# Altium footprint library pcblib-rev1-env.PcbLib: 24 footprints (part 1 of 2)
Each footprint in its own frame and in the unit in brackets; x right, y up, seen from the top. Pads: shape width x height; smd on the part's side, far side on the other; paste and mask are expansions set on the pad; w line width, h text height; cw(c..) or ccw(c..) is an arc to the next point about the centre after c.
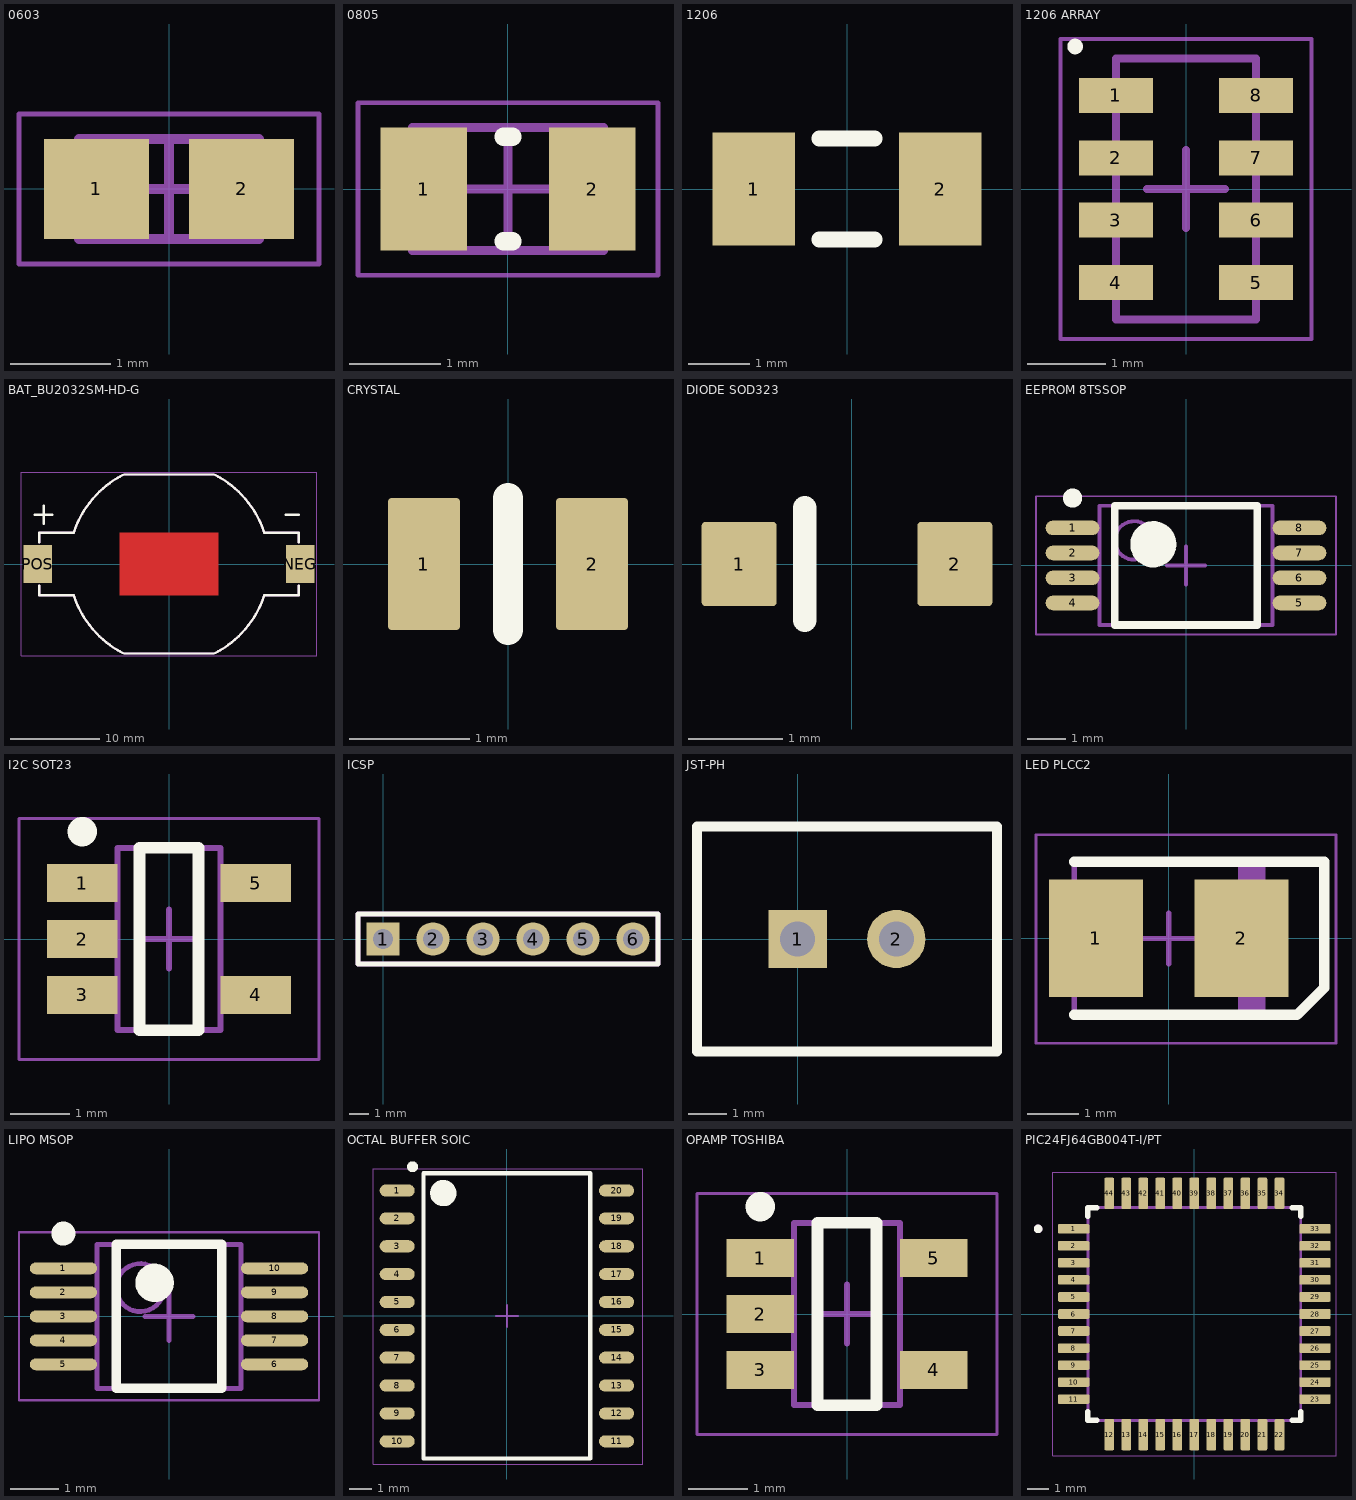
[diagram p0: the footprints below, top view; thin cyan lines are the x and y axes]

## 0603 [mm]
height 1
pads (2):
  rect 1.05x1 smd: 1(-0.725,0) 2(0.725,0)
Mechanical 13:
  lines w0.1: -0.9,-0.5 -0.9,0.5 0.9,0.5 0.9,-0.5 -0.9,-0.5
Mechanical 15:
  lines w0.05: -1.5,-0.75 -1.5,0.75 1.5,0.75 1.5,-0.75 -1.5,-0.75
  lines w0.1: -0.5,0 0.5,0 ; 0,-0.5 0,0.5
3D body: height 1, standoff 0, extent -0.6,-0.5 0.6,0.5
3D body: height 1, standoff 0, extent -0.9,-0.5 -0.6,0.5
3D body: height 1, standoff 0, extent 0.6,-0.5 0.9,0.5

## 0805 [mm] "Chip Resistor, 2-Leads, Body 2.00x1.25mm, IPC Medium Density"
height 0.65
pads (2):
  rect 0.95x1.35 smd: 1(-0.925,0) 2(0.925,0)
Top Overlay:
  lines w0.2: -0.05,-0.575 0.05,-0.575 ; -0.05,0.575 0.05,0.575
Mechanical 13:
  lines w0.1: -1.05,-0.675 1.05,-0.675 1.05,0.675 -1.05,0.675 -1.05,-0.675
Mechanical 15:
  lines w0.05: -1.65,-0.95 1.65,-0.95 1.65,0.95 -1.65,0.95 -1.65,-0.95
  lines w0.1: -0.5,0 0.5,0 ; 0,-0.5 0,0.5
3D body: height 0.65, standoff 0, extent 0.75,-0.675 1.05,0.675
3D body: height 0.65, standoff 0, extent -1.05,-0.675 -0.75,0.675
3D body: height 0.65, standoff 0, extent -0.75,-0.675 0.75,0.675

## 1206 [mm] "Chip Resistor, 2-Leads, Body 3.10x1.60mm, IPC Low Density"
height 0.65
pads (2):
  rect 1.35x1.85 smd: 1(-1.525,0) 2(1.525,0)
Top Overlay:
  lines w0.254: -0.45,-0.825 0.45,-0.825 ; -0.45,0.825 0.45,0.825
Mechanical 13:
  lines w0.1: -1.6,-0.85 -1.6,0.85 ; 1.6,-0.85 1.6,0.85
3D body: height 0.65, standoff 0, extent 1.15,-0.85 1.6,0.85
3D body: height 0.65, standoff 0, extent -1.6,-0.85 -1.15,0.85

## 1206 ARRAY [mm] "Chip Array, Flat, 8-Leads, Pitch 0.80mm,  Body 3.20x1.60mm,  IPC Medium Density"
height 1
pads (8):
  rect 0.95x0.45 smd: 1(-0.9,1.2) 2(-0.9,0.4) 3(-0.9,-0.4) 4(-0.9,-1.2) 5(0.9,-1.2) 6(0.9,-0.4) 7(0.9,0.4) 8(0.9,1.2)
Top Overlay:
  circle w0.1: c-1.422,1.829 r0.05
Mechanical 13:
  lines w0.1: -0.9,-1.675 -0.9,1.675 0.9,1.675 0.9,-1.675 -0.9,-1.675
Mechanical 15:
  lines w0.05: -1.61,-1.925 -1.61,1.925 1.61,1.925 1.61,-1.925 -1.61,-1.925
  lines w0.1: -0.5,0 0.5,0 ; 0,-0.5 0,0.5
3D body: height 1, standoff 0, extent -0.9,-1.675 0.9,1.675

## BAT_BU2032SM-HD-G [mm]
pads (2):
  rect 3.2x4.2 smd: NEG(14.65,0) POS(-14.65,0)
Top Layer:
  region: 5.5,-3.5 -5.5,-3.5 -5.5,3.5 5.5,3.5
Top Overlay:
  lines w0.254: -15,5.5 -13,5.5 ; -14.5,-2.4 -14.5,-3.5 -10.645,-3.5 -10.581,-3.681 -10.458,-4.024 -10.35,-4.287 -10.242,-4.538 -10.058,-4.937 -9.88,-5.282 -9.7,-5.594 -9.524,-5.892 -9.168,-6.436 -8.897,-6.809 -8.516,-7.277 -8.022,-7.82 -7.774,-8.061 -7.55,-8.273 -7.354,-8.447 -7.193,-8.586 -7,-8.746 -6.779,-8.919 -6.628,-9.03 -6.375,-9.211 -6.049,-9.433 -5.741,-9.619 -5.497,-9.758 -5.166,-9.939 -5.013,-10 ; -14.5,2.4 -14.5,3.5 -10.645,3.5 -10.581,3.681 -10.458,4.024 -10.35,4.287 -10.242,4.538 -10.058,4.937 -9.88,5.282 -9.7,5.594 -9.524,5.892 -9.168,6.436 -8.897,6.809 -8.516,7.277 -8.022,7.82 -7.774,8.061 -7.55,8.273 -7.354,8.447 -7.193,8.586 -7,8.746 -6.779,8.919 -6.628,9.03 -6.375,9.211 -6.049,9.433 -5.741,9.619 -5.497,9.758 -5.166,9.939 -5.013,10 ; -14,4.5 -14,6.5 ; -5,-10 5,-10 ; -5,10 5,10 ; 5.013,-10 5.166,-9.939 5.497,-9.758 5.741,-9.619 6.049,-9.433 6.375,-9.211 6.628,-9.03 6.779,-8.919 7,-8.746 7.193,-8.586 7.354,-8.447 7.55,-8.273 7.774,-8.061 8.022,-7.82 8.516,-7.277 8.897,-6.809 9.168,-6.436 9.524,-5.892 9.7,-5.594 9.88,-5.282 10.058,-4.937 10.242,-4.538 10.35,-4.287 10.458,-4.024 10.581,-3.681 10.645,-3.5 14.5,-3.5 14.5,-2.4 ; 5.013,10 5.166,9.939 5.497,9.758 5.741,9.619 6.049,9.433 6.375,9.211 6.628,9.03 6.779,8.919 7,8.746 7.193,8.586 7.354,8.447 7.55,8.273 7.774,8.061 8.022,7.82 8.516,7.277 8.897,6.809 9.168,6.436 9.524,5.892 9.7,5.594 9.88,5.282 10.058,4.937 10.242,4.538 10.35,4.287 10.458,4.024 10.581,3.681 10.645,3.5 14.5,3.5 14.5,2.4 ; 13,5.5 14.5,5.5
Top Solder:
  region: 5.6,-3.6 -5.6,-3.6 -5.6,3.6 5.6,3.6
Mechanical 13:
  lines w0.254: -14.5,-2.4 -14.5,-3.5 -10.645,-3.5 -10.581,-3.681 -10.458,-4.024 -10.35,-4.287 -10.242,-4.538 -10.058,-4.937 -9.88,-5.282 -9.7,-5.594 -9.524,-5.892 -9.168,-6.436 -8.897,-6.809 -8.516,-7.277 -8.022,-7.82 -7.774,-8.061 -7.55,-8.273 -7.354,-8.447 -7.193,-8.586 -7,-8.746 -6.779,-8.919 -6.628,-9.03 -6.375,-9.211 -6.049,-9.433 -5.741,-9.619 -5.497,-9.758 -5.166,-9.939 -5.013,-10 ; -14.5,2.4 -14.5,3.5 -10.645,3.5 -10.581,3.681 -10.458,4.024 -10.35,4.287 -10.242,4.538 -10.058,4.937 -9.88,5.282 -9.7,5.594 -9.524,5.892 -9.168,6.436 -8.897,6.809 -8.516,7.277 -8.022,7.82 -7.774,8.061 -7.55,8.273 -7.354,8.447 -7.193,8.586 -7,8.746 -6.779,8.919 -6.628,9.03 -6.375,9.211 -6.049,9.433 -5.741,9.619 -5.497,9.758 -5.166,9.939 -5.013,10 ; -5,-10 5,-10 ; -5,10 5,10 ; 5.013,-10 5.166,-9.939 5.497,-9.758 5.741,-9.619 6.049,-9.433 6.375,-9.211 6.628,-9.03 6.779,-8.919 7,-8.746 7.193,-8.586 7.354,-8.447 7.55,-8.273 7.774,-8.061 8.022,-7.82 8.516,-7.277 8.897,-6.809 9.168,-6.436 9.524,-5.892 9.7,-5.594 9.88,-5.282 10.058,-4.937 10.242,-4.538 10.35,-4.287 10.458,-4.024 10.581,-3.681 10.645,-3.5 14.5,-3.5 14.5,-2.4 ; 5.013,10 5.166,9.939 5.497,9.758 5.741,9.619 6.049,9.433 6.375,9.211 6.628,9.03 6.779,8.919 7,8.746 7.193,8.586 7.354,8.447 7.55,8.273 7.774,8.061 8.022,7.82 8.516,7.277 8.897,6.809 9.168,6.436 9.524,5.892 9.7,5.594 9.88,5.282 10.058,4.937 10.242,4.538 10.35,4.287 10.458,4.024 10.581,3.681 10.645,3.5 14.5,3.5 14.5,2.4
Mechanical 15:
  lines w0.05: -16.5,-10.25 16.5,-10.25 16.5,10.25 -16.5,10.25 -16.5,-10.25

## CRYSTAL [mm]
pads (2):
  rrect10% 0.6x1.1 smd: 1(-0.7,0) 2(0.7,0)
Top Overlay:
  lines w0.254: 0,-0.55 0,0.55

## DIODE SOD323 [mm]
pads (2):
  rrect10% 0.8x0.9 smd: 1(-1.2,0) 2(1.1,0)
Top Overlay:
  lines w0.254: -0.5,-0.6 -0.5,0.6

## EEPROM 8TSSOP [mm]
height 1.2
pads (8):
  oval 1.4x0.38 smd: 1(-2.95,0.975) 2(-2.95,0.325) 3(-2.95,-0.325) 4(-2.95,-0.975) 5(2.95,-0.975) 6(2.95,-0.325) 7(2.95,0.325) 8(2.95,0.975)
Top Overlay:
  circle w0.25: c-2.95,1.75 r0.125
  circle w0.6: c-0.85,0.55 r0.3
  lines w0.2: -1.85,-1.55 -1.85,1.55 1.85,1.55 1.85,-1.55 -1.85,-1.55
Mechanical 13:
  circle w0.1: c-1.35,0.65 r0.5
  lines w0.1: -2.25,-1.55 -2.25,1.55 2.25,1.55 2.25,-1.55 -2.25,-1.55
Mechanical 15:
  lines w0.05: -3.9,-1.8 -3.9,1.8 3.9,1.8 3.9,-1.8 -3.9,-1.8
  lines w0.1: -0.5,0 0.5,0 ; 0,-0.5 0,0.5
3D body: height 1.2, standoff 0.05, extent -2.25,-1.55 2.25,1.55

## I2C SOT23 [mm]
height 1.45
pads (5):
  rect 1.2x0.65 smd: 1(-1.475,0.95) 2(-1.475,0) 3(-1.475,-0.95) 4(1.475,-0.95) 5(1.475,0.95)
Top Overlay:
  circle w0.25: c-1.475,1.825 r0.125
  lines w0.2: -0.5,-1.55 0.5,-1.55 0.5,1.55 -0.5,1.55 -0.5,-1.55
Mechanical 13:
  lines w0.1: -0.875,-1.55 -0.875,1.55 0.875,1.55 0.875,-1.55 -0.875,-1.55
Mechanical 15:
  lines w0.05: -2.55,-2.05 -2.55,2.05 2.55,2.05 2.55,-2.05 -2.55,-2.05
  lines w0.1: -0.5,0 0.5,0 ; 0,-0.5 0,0.5
3D body: height 1.45, standoff 0, extent -0.875,-1.55 0.875,1.55

## ICSP [mm]
pads (6):
  rect 1.7x1.7 hole 1.02: 1(0,0)
  round 1.7 hole 1.02: 2(2.54,0) 3(5.08,0) 4(7.62,0) 5(10.16,0) 6(12.7,0)
Top Overlay:
  lines w0.254: -1.27,-1.27 13.97,-1.27 13.97,1.27 -1.27,1.27 -1.27,-1.27
Mechanical 13:
  lines w0.254: -1.27,-1.27 13.97,-1.27 13.97,1.27 -1.27,1.27 -1.27,-1.27

## JST-PH [mm]
pads (2):
  rect 1.5x1.5 hole 0.9: 1(0,0)
  round 1.5 hole 0.9: 2(2.54,0)
Top Overlay:
  lines w0.254: -2.591,-2.896 5.131,-2.896 5.131,2.896 -2.591,2.896 -2.591,-2.896

## LED PLCC2 [mm] "Molded Diode, 2-Leads, Body 3.50x2.80mm, IPC Medium Density"
height 1.9
pads (2):
  rect 1.85x2.3 smd: 1(-1.425,0) 2(1.425,0)
Top Overlay:
  lines w0.203: -1.85,-1.5 1.85,-1.5 2.513,-1.5 3.048,-0.965 3.048,1.5 -1.85,1.5
Mechanical 13:
  rectangle: 1.352,-1.5 1.85,1.5
  lines w0.1: -1.85,-1.5 1.85,-1.5 1.85,1.5 -1.85,1.5 -1.85,-1.5
Mechanical 15:
  lines w0.05: -2.6,-2.057 3.277,-2.057 3.277,2.032 -2.6,2.032 -2.6,-2.057
  lines w0.1: -0.5,0 0.5,0 ; 0,-0.5 0,0.5
3D body: height 1.9, standoff 0, extent -1.85,-1.5 1.85,1.5

## LIPO MSOP [mm] "TSSOP, 10-Leads, Body 3.00x3.00mm, Pitch 0.50mm, IPC Medium Density"
height 1.1
pads (10):
  oval 1.4x0.245 smd: 1(-2.2,1) 2(-2.2,0.5) 3(-2.2,0) 4(-2.2,-0.5) 5(-2.2,-1) 6(2.2,-1) 7(2.2,-0.5) 8(2.2,0) 9(2.2,0.5) 10(2.2,1)
Top Overlay:
  circle w0.4: c-0.3,0.7 r0.2
  circle w0.25: c-2.2,1.725 r0.125
  lines w0.2: -1.1,-1.5 1.1,-1.5 1.1,1.5 -1.1,1.5 -1.1,-1.5
Mechanical 13:
  circle w0.1: c-0.6,0.6 r0.5
  lines w0.1: -1.5,-1.5 1.5,-1.5 1.5,1.5 -1.5,1.5 -1.5,-1.5
Mechanical 15:
  lines w0.05: -3.125,-1.75 3.125,-1.75 3.125,1.75 -3.125,1.75 -3.125,-1.75
  lines w0.1: -0.5,0 0.5,0 ; 0,-0.5 0,0.5
3D body: height 1.1, standoff 0, extent -1.5,-1.5 1.5,1.5

## OCTAL BUFFER SOIC [mm] "SOIC, 20-Leads, Body 12.80x7.50mm, Pitch 1.27mm, IPC Medium Density"
height 2.65
pads (20):
  oval 1.6x0.55 smd: 1(-5,5.715) 2(-5,4.445) 3(-5,3.175) 4(-5,1.905) 5(-5,0.635) 6(-5,-0.635) 7(-5,-1.905) 8(-5,-3.175) 9(-5,-4.445) 10(-5,-5.715) 11(5,-5.715) 12(5,-4.445) 13(5,-3.175) 14(5,-1.905) 15(5,-0.635) 16(5,0.635) 17(5,1.905) 18(5,3.175) 19(5,4.445) 20(5,5.715)
Top Overlay:
  circle w0.25: c-4.3,6.8 r0.125
  circle w0.6: c-2.9,5.6 r0.3
  lines w0.2: -3.8,-6.5 -3.8,6.5 3.8,6.5 3.8,-6.5 -3.8,-6.5
Mechanical 13:
  circle w0.1: c-2.9,5.6 r0.5
  lines w0.1: -3.8,-6.5 -3.8,6.5 3.8,6.5 3.8,-6.5 -3.8,-6.5
Mechanical 15:
  lines w0.05: -6.096,-6.75 -6.096,6.7 6.198,6.7 6.198,-6.75 -6.096,-6.75
  lines w0.1: -0.5,0 0.5,0 ; 0,-0.5 0,0.5
3D body: height 2.65, standoff 0.1, extent -3.8,-6.5 3.8,6.5

## OPAMP TOSHIBA [mm] "SOT23, 5-Leads, Body 2.90x2.75mm, Pitch 0.95mm, IPC Low Density"
height 1.4
pads (5):
  rect 1.15x0.65 smd: 1(-1.475,0.95) 2(-1.475,0) 3(-1.475,-0.95) 4(1.475,-0.95) 5(1.475,0.95)
Top Overlay:
  circle w0.25: c-1.475,1.825 r0.125
  lines w0.2: -0.5,-1.55 0.5,-1.55 0.5,1.55 -0.5,1.55 -0.5,-1.55
Mechanical 13:
  lines w0.1: -0.9,-1.55 -0.9,1.55 0.9,1.55 0.9,-1.55 -0.9,-1.55
Mechanical 15:
  lines w0.05: -2.55,-2.05 -2.55,2.05 2.55,2.05 2.55,-2.05 -2.55,-2.05
  lines w0.1: -0.5,0 0.5,0 ; 0,-0.5 0,0.5
3D body: height 1.4, standoff 0, extent -0.9,-1.55 0.9,1.55

## PIC24FJ64GB004T-I/PT [mm]
pads (44):
  rrect25% 1.47x0.45 smd: 1(-5.67,4) 2(-5.67,3.2) 3(-5.67,2.4) 4(-5.67,1.6) 5(-5.67,0.8) 6(-5.67,0) 7(-5.67,-0.8) 8(-5.67,-1.6) 9(-5.67,-2.4) 10(-5.67,-3.2) 11(-5.67,-4) 23(5.67,-4) 24(5.67,-3.2) 25(5.67,-2.4) 26(5.67,-1.6) 27(5.67,-0.8) 28(5.67,0) 29(5.67,0.8) 30(5.67,1.6) 31(5.67,2.4) 32(5.67,3.2) 33(5.67,4)
  rrect25% 0.45x1.47 smd: 12(-4,-5.67) 13(-3.2,-5.67) 14(-2.4,-5.67) 15(-1.6,-5.67) 16(-0.8,-5.67) 17(0,-5.67) 18(0.8,-5.67) 19(1.6,-5.67) 20(2.4,-5.67) 21(3.2,-5.67) 22(4,-5.67) 34(4,5.67) 35(3.2,5.67) 36(2.4,5.67) 37(1.6,5.67) 38(0.8,5.67) 39(0,5.67) 40(-0.8,5.67) 41(-1.6,5.67) 42(-2.4,5.67) 43(-3.2,5.67) 44(-4,5.67)
Top Overlay:
  circle w0.2: c-7.34,4 r0.1
  lines w0.254: -5,-4.595 -5,-5 -4.595,-5 ; -5,4.595 -5,5 -4.595,5 ; 4.595,-5 5,-5 5,-4.595 ; 4.595,5 5,5 5,4.595
Mechanical 13:
  circle w0.2: c-7.34,4 r0.1
  lines w0.127: -5,-5 5,-5 5,5 -5,5 -5,-5
Mechanical 15:
  lines w0.05: -6.655,-6.655 6.655,-6.655 6.655,6.655 -6.655,6.655 -6.655,-6.655
3D body "step_temp.STEP": height 1.2, standoff 0, extent -6,-6 6,6